# Altium schematic symbol library HDR2X20.Schlib: 1 symbol
Pins are listed as number, name and electrical type; pins without a type are passive.

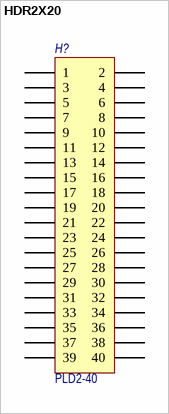
[diagram p0: symbol HDR2X20]

## HDR2X20
designator H?, comment Наименование: PLD2-40  (hidden comment: Header 20X2H)
Header, 20-Pin, Dual row, Right Angle; Потребление, Вт: 0,0; Назначение: Header, 20-Pin, Dual row, Right Angle
signal-integrity model Connector
footprint PLD2-40 (DS-1025-05 2x20) (DUAL ROW STRAIGHT 2mm)
pins: 1, 2, 3, 4, 5, 6, 7, 8, 9, 10, 11, 12, 13, 14, 15, 16, 17, 18, 19, 20, 21, 22, 23, 24, 25, 26, 27, 28, 29, 30, 31, 32, 33, 34, 35, 36, 37, 38, 39, 40